# Altium footprint library 2844152.PcbLib: 1 footprints
Each footprint in its own frame and in the unit in brackets; x right, y up, seen from the top. Pads: shape width x height; smd on the part's side, far side on the other; paste and mask are expansions set on the pad; w line width, h text height; cw(c..) or ccw(c..) is an arc to the next point about the centre after c.
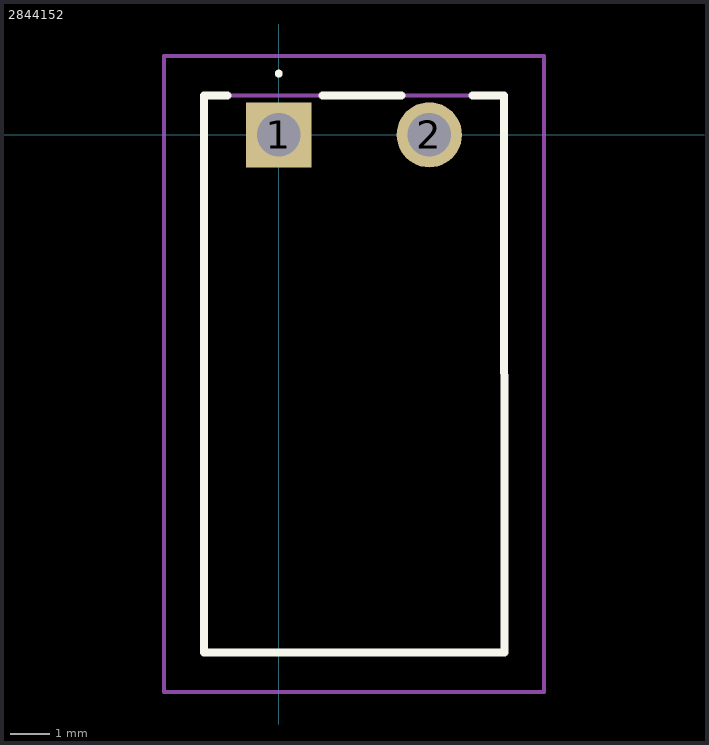
[diagram p0: the footprint, top view; thin cyan lines are the x and y axes]

## 2844152 [mm]
pads (2):
  rect 1.65x1.65 hole 1.1: 1(0,0)
  round 1.65 hole 1.1: 2(3.81,0)
Top Overlay:
  lines w0.1: 0,1.5 cw(c0,1.55) 0,1.6 ; 0,1.5 0,1.5 ; 0,1.5 ccw(c0,1.55) 0,1.6 ; 0,1.6 0,1.6
  lines w0.2: -1.295,1 -1.895,1 -1.895,-13.1 5.715,-13.1 5.705,1 4.905,1 ; 1.105,1 3.105,1
Mechanical 15:
  lines w0.1: -1.905,-13.1 5.715,-13.1 5.715,1 -1.905,1 -1.905,-13.1
Mechanical 20:
  lines w0.1: -2.905,-14.1 6.715,-14.1 6.715,2 -2.905,2 -2.905,-14.1